# EAGLE library part 68800611722 (library Wire-to-Board (rev18a))
WR-WTB 2.50mm "J"Type Male Horizontal Shrouded Header, 6 Pins=>Code : WTB_2.50-J_PCB_THT_68800611722 <http://katalog.we-online.de/media/thumbs2/eican/thb_Con_WTB_2.50-J_PCB_THT_6880xx11722_pf2%20(2).jpg> Details see: http://katalog.we-online.de/en/em/WTB_2_50_J_TYPE_HORIZONTAL_MALE_SHROUDED_HEADER_6880XX11722 Created 2014-06-05, Karrer Zheng 2014 (C) Würth Elektronik
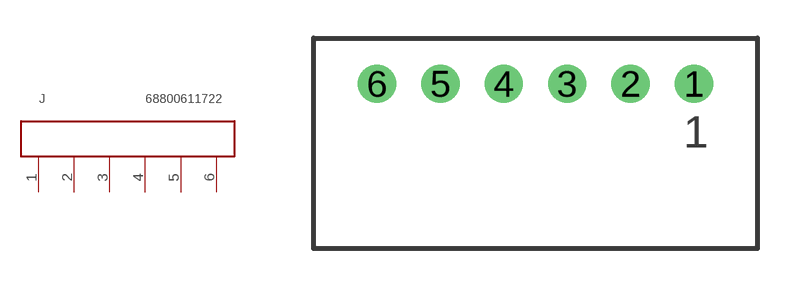
[diagram p18: symbol with the pads of 68800611722; footprint 68800611722]

Designator prefix J

## 68800611722  [68800611722]
1  6  pas
2  5  pas
3  4  pas
4  3  pas
5  2  pas
6  1  pas

## Footprint 68800611722 (pad centres in mm)
WR-WTB 2.50mm "J" Type Male Horizontal Shrouded Header, 6 Pins
drill 1: 1 6.25,2.35; 2 3.75,2.35; 3 1.25,2.35; 4 -1.25,2.35; 5 -3.75,2.35; 6 -6.25,2.35